# EAGLE library part SI473*-D60-G? (library ic-Silicon)
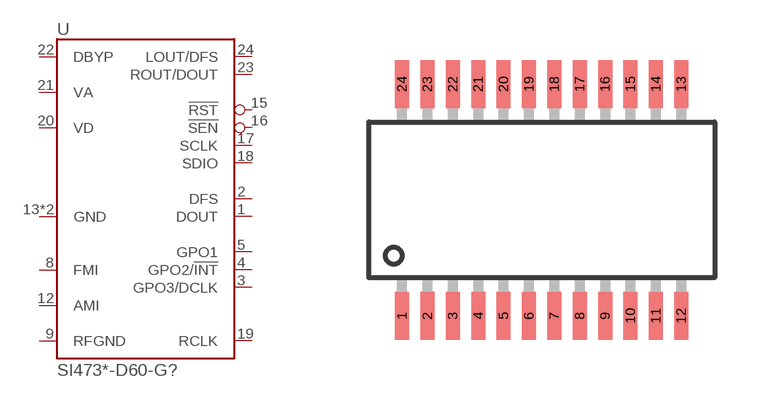
[diagram p5: symbol with the pads of SSOP24; footprint SSOP24]

Designator prefix U

## SI4730-D60-GU, SI4731-D60-GU, SI4734-D60-GU, SI4735-D60-GU  [SSOP24]
1  DOUT
2  DFS
3  GPO3/DCLK
4  GPO2/!INT!
5  GPO1
8  FMI
9  RFGND
12  AMI
13  GND
14  GND
15  !RST
16  !SEN
17  SCLK
18  SDIO
19  RCLK
20  VD
21  VA
22  DBYP
23  ROUT/DOUT
24  LOUT/DFS

## Footprint SSOP24 (pad centres in mm)
smd 0.35 x 1.2: 1 -3.493,-2.9; 2 -2.857,-2.9; 3 -2.223,-2.9; 4 -1.587,-2.9; 5 -0.953,-2.9; 6 -0.318,-2.9; 7 0.318,-2.9; 8 0.953,-2.9; 9 1.587,-2.9; 10 2.223,-2.9; 11 2.857,-2.9; 12 3.493,-2.9; 13 3.493,2.9; 14 2.857,2.9; 15 2.223,2.9; 16 1.587,2.9; 17 0.953,2.9; 18 0.318,2.9; 19 -0.318,2.9; 20 -0.953,2.9; 21 -1.587,2.9; 22 -2.223,2.9; 23 -2.857,2.9; 24 -3.493,2.9